# EAGLE library part ADG918 (library analog-devices)
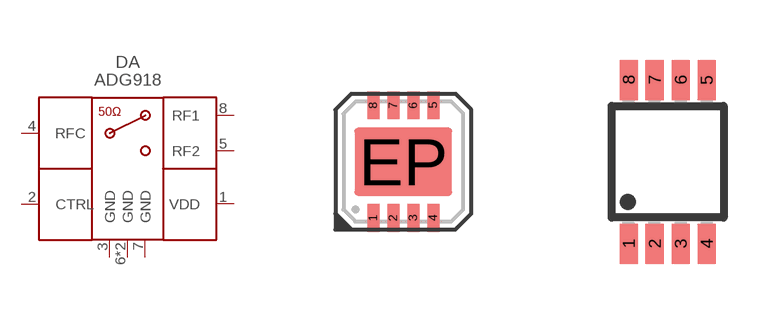
[diagram p10: symbol with the pads of LFCSP-8; footprints LFCSP-8, MSOP8]

Designator prefix DA

## ADG918BCPZ-REEL7  [LFCSP-8]
1  VDD  pwr
2  CTRL  in
3  GND  pwr
4  RFC  in
5  RF2  out
6  GND  pwr
7  GND  pwr
8  RF1  out
EP  GND  pwr

## ADG918BRM-REEL7  [MSOP8]
1  VDD  pwr
2  CTRL  in
3  GND  pwr
4  RFC  in
5  RF2  out
6  GND  pwr
7  GND  pwr
8  RF1  out

## Footprint LFCSP-8 (pad centres in mm)
smd 0.3 x 0.7: 1 -0.75,-1.41; 2 -0.25,-1.41; 3 0.25,-1.41; 4 0.75,-1.41; 5 0.75,1.41; 6 0.25,1.41; 7 -0.25,1.41; 8 -0.75,1.41
smd 2.44 x 1.7: EP 0,0

## Footprint MSOP8 (pad centres in mm)
Micro Small Outline Package Grid .65mm
smd 0.45 x 1: 1 -0.975,-2.05; 2 -0.325,-2.05; 3 0.325,-2.05; 4 0.975,-2.05; 5 0.975,2.05; 6 0.325,2.05; 7 -0.325,2.05; 8 -0.975,2.05